# EAGLE library part ETA9740 (library ETA9740)
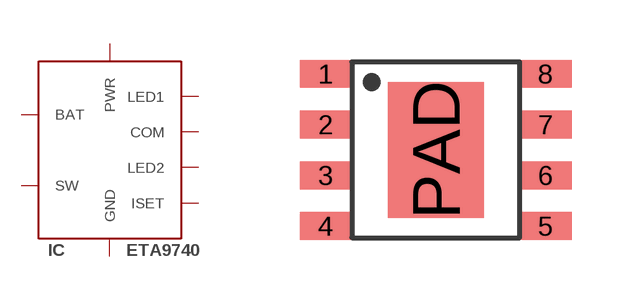
[diagram p0: symbol with the pads of SOP-8; footprint SOP-8]

Designator prefix IC

## ETA9740  [SOP-8]
1  SW
2  LED1
3  LED2
4  COM
5  ISET
6  BAT
7  PWR
8  GND
PAD  GND

## Footprint SOP-8 (pad centres in mm)
smd 1.3 x 0.7: 1 -2.75,1.905; 2 -2.75,0.635; 3 -2.75,-0.635; 4 -2.75,-1.905; 5 2.75,-1.905; 6 2.75,-0.635; 7 2.75,0.635; 8 2.75,1.905
smd 2.4 x 3.4: PAD 0,0